# Altium integrated library Seeed-OPL-Inductor.IntLib: 54 symbols
Pins are listed as number, name and electrical type; pins without a type are passive.

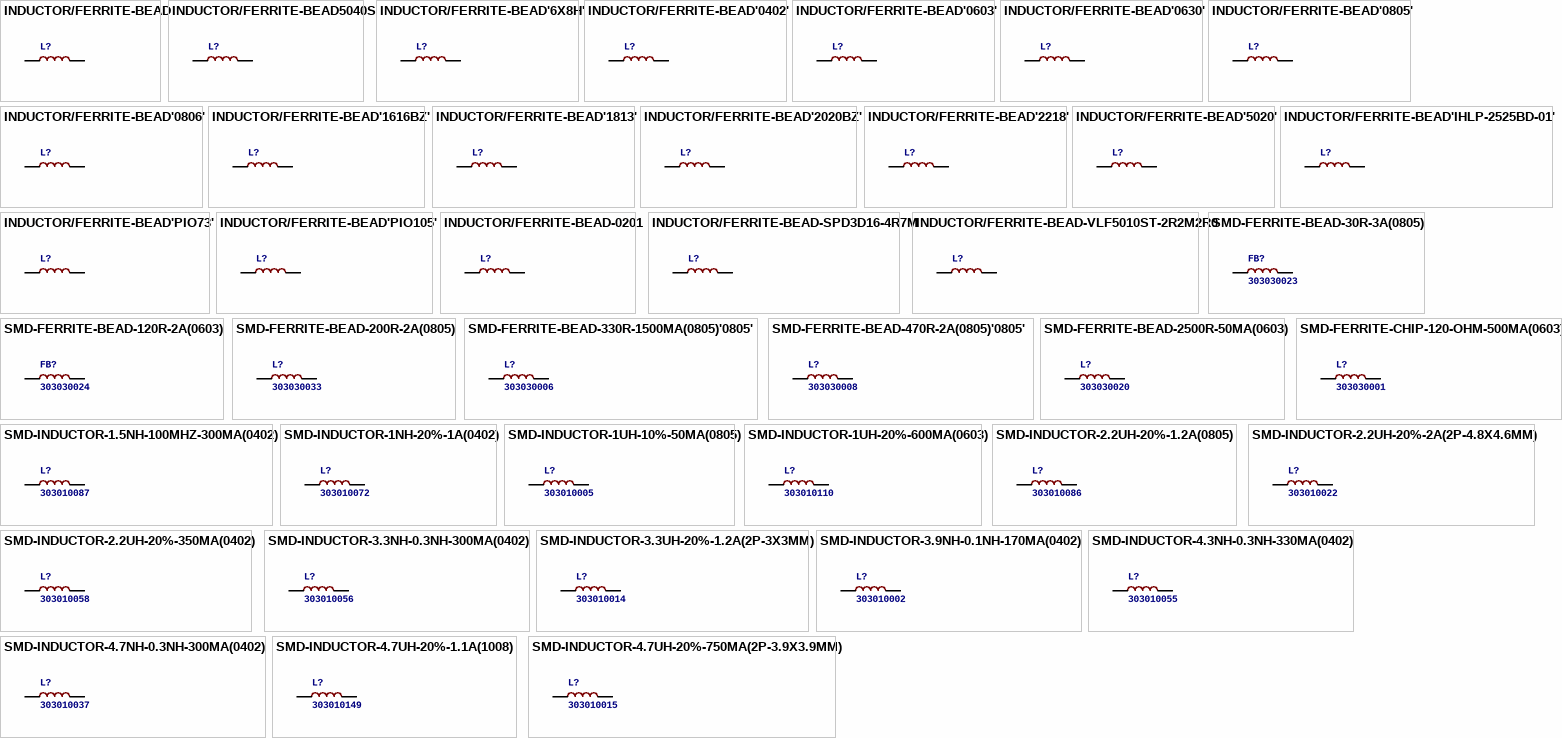
[diagram p0: symbols INDUCTOR/FERRITE-BEAD to SMD-INDUCTOR-4.7UH-20%-750MA(2P-3.9X3.9MM)]

## INDUCTOR/FERRITE-BEAD
designator L?
footprint INT2-SMD-4.8X4.8X3MM
pins: 1, 2

## INDUCTOR/FERRITE-BEAD5040S
designator L?
footprint L5040S
pins: 1, 2

## INDUCTOR/FERRITE-BEAD'6X8H'
designator L?
footprint INT2-3.5-D6.5XH8.0MM
pins: 1, 2

## INDUCTOR/FERRITE-BEAD'0402'
designator L?
footprint L0402
pins: 1, 2

## INDUCTOR/FERRITE-BEAD'0603'
designator L?
footprint L0603
pins: 1, 2

## INDUCTOR/FERRITE-BEAD'0630'
designator L?
footprint L0630
pins: 1, 2

## INDUCTOR/FERRITE-BEAD'0805'
designator L?
footprint L0805
pins: 1, 2

## INDUCTOR/FERRITE-BEAD'0806'
designator L?
footprint L0806
pins: 1, 2

## INDUCTOR/FERRITE-BEAD'1616BZ'
designator L?
footprint L1616
pins: 1, 2

## INDUCTOR/FERRITE-BEAD'1813'
designator L?
footprint L1813
pins: 1, 2

## INDUCTOR/FERRITE-BEAD'2020BZ'
designator L?
footprint L2020
pins: 1, 2

## INDUCTOR/FERRITE-BEAD'2218'
designator L?
footprint L2218
pins: P$1 1, P$2 2

## INDUCTOR/FERRITE-BEAD'5020'
designator L?
footprint L5020
pins: 1, 2

## INDUCTOR/FERRITE-BEAD'IHLP-2525BD-01'
designator L?
footprint L2626
pins: 1, 2

## INDUCTOR/FERRITE-BEAD'PIO73'
designator L?
footprint PIO73
pins: 1, 2

## INDUCTOR/FERRITE-BEAD'PIO105'
designator L?
footprint PIO105
pins: 1, 2

## INDUCTOR/FERRITE-BEAD-0201
designator L?
footprint L0201
pins: 1, 2

## INDUCTOR/FERRITE-BEAD-SPD3D16-4R7M
designator L?
footprint L0420
pins: 1, 2

## INDUCTOR/FERRITE-BEAD-VLF5010ST-2R2M2R0
designator L?
footprint INT2-SMD-4.8X4.6X1.0MM
pins: 1, 2

## SMD-FERRITE-BEAD-30R-3A(0805)
designator FB?, comment 303030023
MPN: MH2029-300Y
footprint L0805
pins: 1, 2

## SMD-FERRITE-BEAD-120R-2A(0603)
designator FB?, comment 303030024
MPN: BLM18PG121SN1D
footprint L0603
pins: 1, 2

## SMD-FERRITE-BEAD-200R-2A(0805)
designator L?, comment 303030033
MPN: PZ2012U221-2R0TF
footprint L0805
pins: 1, 2

## SMD-FERRITE-BEAD-330R-1500MA(0805)'0805'
designator L?, comment 303030006
MPN: BLM21PG331SN1D
footprint L0805
pins: 1, 2

## SMD-FERRITE-BEAD-470R-2A(0805)'0805'
designator L?, comment 303030008
MPN: WLB2012-471T20
footprint L0805
pins: 1, 2

## SMD-FERRITE-BEAD-2500R-50MA(0603)
designator L?, comment 303030020
footprint L0603
pins: 1, 2

## SMD-FERRITE-CHIP-120-OHM-500MA(0603)
designator L?, comment 303030001
MPN: BLM18AG121SN1D
footprint L0603
pins: 1, 2

## SMD-INDUCTOR-1.5NH-100MHZ-300MA(0402)
designator L?, comment 303010087
MPN: LQG15HS1N5S0
footprint L0402
pins: 1, 2

## SMD-INDUCTOR-1NH-20%-1A(0402)
designator L?, comment 303010072
footprint L0402
pins: 1, 2

## SMD-INDUCTOR-1UH-10%-50MA(0805)
designator L?, comment 303010005
MPN: LQM21NN1R0K10
footprint L0805
pins: 1, 2

## SMD-INDUCTOR-1UH-20%-600MA(0603)
designator L?, comment 303010110
footprint L0603
pins: 1, 2

## SMD-INDUCTOR-2.2UH-20%-1.2A(0805)
designator L?, comment 303010086
MPN: LQM2MPN2R2MG0
footprint L0805
pins: 1, 2

## SMD-INDUCTOR-2.2UH-20%-2A(2P-4.8X4.6MM)
designator L?, comment 303010022
MPN: VLF5010ST-2R2M2R0
footprint INT2-SMD-4.8X4.6X1.0MM
pins: 1, 2

## SMD-INDUCTOR-2.2UH-20%-350MA(0402)
designator L?, comment 303010058
MPN: MLZ1005M2R2WT000
footprint L0402
pins: 1, 2

## SMD-INDUCTOR-3.3NH-0.3NH-300MA(0402)
designator L?, comment 303010056
footprint L0402
pins: 1, 2

## SMD-INDUCTOR-3.3UH-20%-1.2A(2P-3X3MM)
designator L?, comment 303010014
footprint INT2-SMD-3X3X1.5MM
pins: 1, 2

## SMD-INDUCTOR-3.9NH-0.1NH-170MA(0402)
designator L?, comment 303010002
MPN: LQP15MN3N9B02D
footprint L0402
pins: 1, 2

## SMD-INDUCTOR-4.3NH-0.3NH-330MA(0402)
designator L?, comment 303010055
MPN: LQG15HS4N3S02
footprint L0402
pins: 1, 2

## SMD-INDUCTOR-4.7NH-0.3NH-300MA(0402)
designator L?, comment 303010037
MPN: LQG15HS4N7S02
footprint L0402
pins: 1, 2

## SMD-INDUCTOR-4.7UH-20%-1.1A(1008)
designator L?, comment 303010149
MPN: CIG22L4R7MNE
footprint L1008
pins: 1, 2

## SMD-INDUCTOR-4.7UH-20%-750MA(2P-3.9X3.9MM)
designator L?, comment 303010015
MPN: SPD3D16-4R7M
footprint L0420
pins: 1, 2

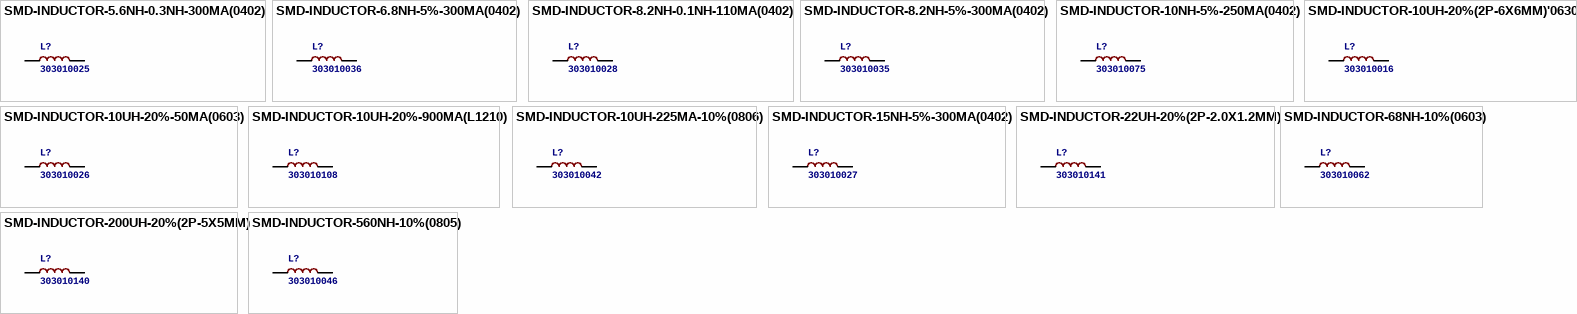
[diagram p1: symbols SMD-INDUCTOR-5.6NH-0.3NH-300MA(0402) to SMD-INDUCTOR-560NH-10%(0805)]

## SMD-INDUCTOR-5.6NH-0.3NH-300MA(0402)
designator L?, comment 303010025
MPN: LQG15HS15NJ02
footprint L0402
pins: 1, 2

## SMD-INDUCTOR-6.8NH-5%-300MA(0402)
designator L?, comment 303010036
MPN: LQG15HS6N8J02
footprint L0402
pins: 1, 2

## SMD-INDUCTOR-8.2NH-0.1NH-110MA(0402)
designator L?, comment 303010028
footprint L0402
pins: 1, 2

## SMD-INDUCTOR-8.2NH-5%-300MA(0402)
designator L?, comment 303010035
MPN: LQG15HS8N2J02
footprint L0402
pins: 1, 2

## SMD-INDUCTOR-10NH-5%-250MA(0402)
designator L?, comment 303010075
footprint L0402
pins: 1, 2

## SMD-INDUCTOR-10UH-20%(2P-6X6MM)'0630'
designator L?, comment 303010016
MPN: CSAB0630-100M
footprint SMD-2P-L6.0XW6.0XH3.0MM
pins: 1, 2

## SMD-INDUCTOR-10UH-20%-50MA(0603)
designator L?, comment 303010026
MPN: LQM18FN100M00
footprint L0603
pins: 1, 2

## SMD-INDUCTOR-10UH-20%-900MA(L1210)
designator L?, comment 303010108
MPN: CBC3225T100MR
footprint L1210
pins: 1, 2

## SMD-INDUCTOR-10UH-225MA-10%(0806)
designator L?, comment 303010042
MPN: LQH2MCN100K02L
footprint L0806
pins: 1, 2

## SMD-INDUCTOR-15NH-5%-300MA(0402)
designator L?, comment 303010027
MPN: LQG15HS15NJ02
footprint L0402
pins: 1, 2

## SMD-INDUCTOR-22UH-20%(2P-2.0X1.2MM)
designator L?, comment 303010141
MPN: MPH201210S22RMT
footprint SMD-2P-2.0X1.2X1.0MM
pins: 1, 2

## SMD-INDUCTOR-68NH-10%(0603)
designator L?, comment 303010062
footprint L0603
pins: 1, 2

## SMD-INDUCTOR-200UH-20%(2P-5X5MM)
designator L?, comment 303010140
MPN: SWPA5020S220MT
footprint SMD-2P-5.0X5.0X2.0MM
pins: 1, 2

## SMD-INDUCTOR-560NH-10%(0805)
designator L?, comment 303010046
footprint L0805
pins: 1, 2